# Altium integrated library ALTIUM-WE-PD-HV-rev17a.IntLib: 18 symbols
Pins are listed as number, name and electrical type; pins without a type are passive.

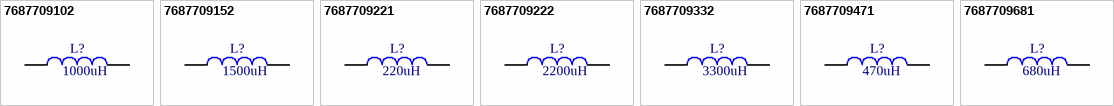
[diagram p0: symbols 7687709102 to 7687709681]

## 7687709102
designator L?  value 1000uH
WE-PD HV SMD High Voltage Power Inductor, size 1210, 0.72A, 1.2Ω, 1000uH; Part Number: 7687709102; DC Resistance: 1.2Ω typ.; ComponentLink1Description: Manufacturer; ComponentLink1URL: http://www.we-online.de; ComponentLink2Description: Datasheet; ComponentLink2URL: http://katalog.we-online.de/pbs/datasheet/7687709102.pdf; Published Date: July 2017; Publisher: Wurth Elektronik; Rated Current: 0.72A; Size: 1210
footprint WE-PD HV_1210
pins: 1, 2

## 7687709152
designator L?  value 1500uH
WE-PD HV SMD High Voltage Power Inductor, size 1210, 0.52A, 1.9Ω, 1500uH; Part Number: 7687709152; DC Resistance: 1.9Ω typ.; ComponentLink1Description: Manufacturer; ComponentLink1URL: http://www.we-online.de; ComponentLink2Description: Datasheet; ComponentLink2URL: http://katalog.we-online.de/pbs/datasheet/7687709152.pdf; Published Date: July 2017; Publisher: Wurth Elektronik; Rated Current: 0.52A; Size: 1210
footprint WE-PD HV_1210
pins: 1, 2

## 7687709221
designator L?  value 220uH
WE-PD HV SMD High Voltage Power Inductor, size 1210, 1.3A, 0.3Ω, 220uH; Part Number: 7687709221; DC Resistance: 0.3Ω typ.; ComponentLink1Description: Manufacturer; ComponentLink1URL: http://www.we-online.de; ComponentLink2Description: Datasheet; ComponentLink2URL: http://katalog.we-online.de/pbs/datasheet/7687709221.pdf; Published Date: July 2017; Publisher: Wurth Elektronik; Rated Current: 1.3A; Size: 1210
footprint WE-PD HV_1210
pins: 1, 2

## 7687709222
designator L?  value 2200uH
WE-PD HV SMD High Voltage Power Inductor, size 1210, 0.43A, 3.1Ω, 2200uH; Part Number: 7687709222; DC Resistance: 3.1Ω typ.; ComponentLink1Description: Manufacturer; ComponentLink1URL: http://www.we-online.de; ComponentLink2Description: Datasheet; ComponentLink2URL: http://katalog.we-online.de/pbs/datasheet/7687709222.pdf; Published Date: July 2017; Publisher: Wurth Elektronik; Rated Current: 0.43A; Size: 1210
footprint WE-PD HV_1210
pins: 1, 2

## 7687709332
designator L?  value 3300uH
WE-PD HV SMD High Voltage Power Inductor, size 1210, 0.37A, 4.4Ω, 3300uH; Part Number: 7687709332; DC Resistance: 4.4Ω typ.; ComponentLink1Description: Manufacturer; ComponentLink1URL: http://www.we-online.de; ComponentLink2Description: Datasheet; ComponentLink2URL: http://katalog.we-online.de/pbs/datasheet/7687709332.pdf; Published Date: July 2017; Publisher: Wurth Elektronik; Rated Current: 0.37A; Size: 1210
footprint WE-PD HV_1210
pins: 1, 2

## 7687709471
designator L?  value 470uH
WE-PD HV SMD High Voltage Power Inductor, size 1210, 0.97A, 0.68Ω, 470uH; Part Number: 7687709471; DC Resistance: 0.68Ω typ.; ComponentLink1Description: Manufacturer; ComponentLink1URL: http://www.we-online.de; ComponentLink2Description: Datasheet; ComponentLink2URL: http://katalog.we-online.de/pbs/datasheet/7687709471.pdf; Published Date: July 2017; Publisher: Wurth Elektronik; Rated Current: 0.97A; Size: 1210
footprint WE-PD HV_1210
pins: 1, 2

## 7687709681
designator L?  value 680uH
WE-PD HV SMD High Voltage Power Inductor, size 1210, 0.8A, 0.95Ω, 680uH; Part Number: 7687709681; DC Resistance: 0.95Ω typ.; ComponentLink1Description: Manufacturer; ComponentLink1URL: http://www.we-online.de; ComponentLink2Description: Datasheet; ComponentLink2URL: http://katalog.we-online.de/pbs/datasheet/7687709681.pdf; Published Date: July 2017; Publisher: Wurth Elektronik; Rated Current: 0.8A; Size: 1210
footprint WE-PD HV_1210
pins: 1, 2


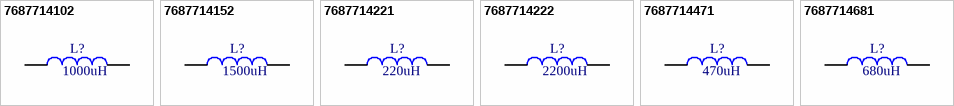
[diagram p1: symbols 7687714102 to 7687714681]

## 7687714102
designator L?  value 1000uH
WE-PD HV SMD High Voltage Power Inductor, size 1060, 0.4A, 2.7Ω, 1000uH; Part Number: 7687714102; DC Resistance: 2.7Ω typ.; ComponentLink1Description: Manufacturer; ComponentLink1URL: http://www.we-online.de; ComponentLink2Description: Datasheet; ComponentLink2URL: http://katalog.we-online.de/pbs/datasheet/7687714102.pdf; Published Date: July 2017; Publisher: Wurth Elektronik; Rated Current: 0.4A; Size: 1060
footprint WE-PD HV_1060
pins: 1, 2

## 7687714152
designator L?  value 1500uH
WE-PD HV SMD High Voltage Power Inductor, size 1060, 0.32A, 3.8Ω, 1500uH; Part Number: 7687714152; DC Resistance: 3.8Ω typ.; ComponentLink1Description: Manufacturer; ComponentLink1URL: http://www.we-online.de; ComponentLink2Description: Datasheet; ComponentLink2URL: http://katalog.we-online.de/pbs/datasheet/7687714152.pdf; Published Date: July 2017; Publisher: Wurth Elektronik; Rated Current: 0.32A; Size: 1060
footprint WE-PD HV_1060
pins: 1, 2

## 7687714221
designator L?  value 220uH
WE-PD HV SMD High Voltage Power Inductor, size 1060, 0.95A, 0.57Ω, 220uH; Part Number: 7687714221; DC Resistance: 0.57Ω typ.; ComponentLink1Description: Manufacturer; ComponentLink1URL: http://www.we-online.de; ComponentLink2Description: Datasheet; ComponentLink2URL: http://katalog.we-online.de/pbs/datasheet/7687714221.pdf; Published Date: July 2017; Publisher: Wurth Elektronik; Rated Current: 0.95A; Size: 1060
footprint WE-PD HV_1060
pins: 1, 2

## 7687714222
designator L?  value 2200uH
WE-PD HV SMD High Voltage Power Inductor, size 1060, 0.26A, 5.5Ω, 2200uH; Part Number: 7687714222; DC Resistance: 5.5Ω typ.; ComponentLink1Description: Manufacturer; ComponentLink1URL: http://www.we-online.de; ComponentLink2Description: Datasheet; ComponentLink2URL: http://katalog.we-online.de/pbs/datasheet/7687714222.pdf; Published Date: July 2017; Publisher: Wurth Elektronik; Rated Current: 0.26A; Size: 1060
footprint WE-PD HV_1060
pins: 1, 2

## 7687714471
designator L?  value 470uH
WE-PD HV SMD High Voltage Power Inductor, size 1060, 0.6A, 1.25Ω, 470uH; Part Number: 7687714471; DC Resistance: 1.25Ω typ.; ComponentLink1Description: Manufacturer; ComponentLink1URL: http://www.we-online.de; ComponentLink2Description: Datasheet; ComponentLink2URL: http://katalog.we-online.de/pbs/datasheet/7687714471.pdf; Published Date: July 2017; Publisher: Wurth Elektronik; Rated Current: 0.6A; Size: 1060
footprint WE-PD HV_1060
pins: 1, 2

## 7687714681
designator L?  value 680uH
WE-PD HV SMD High Voltage Power Inductor, size 1060, 0.55A, 1.9Ω, 680uH; Part Number: 7687714681; DC Resistance: 1.9Ω typ.; ComponentLink1Description: Manufacturer; ComponentLink1URL: http://www.we-online.de; ComponentLink2Description: Datasheet; ComponentLink2URL: http://katalog.we-online.de/pbs/datasheet/7687714681.pdf; Published Date: July 2017; Publisher: Wurth Elektronik; Rated Current: 0.55A; Size: 1060
footprint WE-PD HV_1060
pins: 1, 2


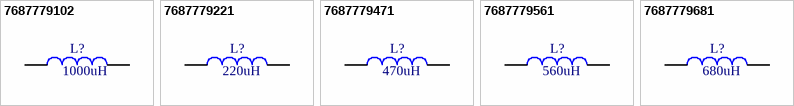
[diagram p2: symbols 7687779102 to 7687779681]

## 7687779102
designator L?  value 1000uH
WE-PD HV SMD High Voltage Power Inductor, size 7345, 0.24A, 5.1Ω, 1000uH; Part Number: 7687779102; DC Resistance: 5.1Ω typ.; ComponentLink1Description: Manufacturer; ComponentLink1URL: http://www.we-online.de; ComponentLink2Description: Datasheet; ComponentLink2URL: http://katalog.we-online.de/pbs/datasheet/7687779102.pdf; Published Date: July 2017; Publisher: Wurth Elektronik; Rated Current: 0.24A; Size: 7345
footprint WE-PD HV_7345
pins: 1, 2

## 7687779221
designator L?  value 220uH
WE-PD HV SMD High Voltage Power Inductor, size 7345, 0.56A, 1.1Ω, 220uH; Part Number: 7687779221; DC Resistance: 1.1Ω typ.; ComponentLink1Description: Manufacturer; ComponentLink1URL: http://www.we-online.de; ComponentLink2Description: Datasheet; ComponentLink2URL: http://katalog.we-online.de/pbs/datasheet/7687779221.pdf; Published Date: July 2017; Publisher: Wurth Elektronik; Rated Current: 0.56A; Size: 7345
footprint WE-PD HV_7345
pins: 1, 2

## 7687779471
designator L?  value 470uH
WE-PD HV SMD High Voltage Power Inductor, size 7345, 0.35A, 2.7Ω, 470uH; Part Number: 7687779471; DC Resistance: 2.7Ω typ.; ComponentLink1Description: Manufacturer; ComponentLink1URL: http://www.we-online.de; ComponentLink2Description: Datasheet; ComponentLink2URL: http://katalog.we-online.de/pbs/datasheet/7687779471.pdf; Published Date: July 2017; Publisher: Wurth Elektronik; Rated Current: 0.35A; Size: 7345
footprint WE-PD HV_7345
pins: 1, 2

## 7687779561
designator L?  value 560uH
WE-PD HV SMD High Voltage Power Inductor, size 7345, 0.33A, 3Ω, 560uH; Part Number: 7687779561; DC Resistance: 3Ω typ.; ComponentLink1Description: Manufacturer; ComponentLink1URL: http://www.we-online.de; ComponentLink2Description: Datasheet; ComponentLink2URL: http://katalog.we-online.de/pbs/datasheet/7687779561.pdf; Published Date: July 2017; Publisher: Wurth Elektronik; Rated Current: 0.33A; Size: 7345
footprint WE-PD HV_7345
pins: 1, 2

## 7687779681
designator L?  value 680uH
WE-PD HV SMD High Voltage Power Inductor, size 7345, 0.3A, 3.4Ω, 680uH; Part Number: 7687779681; DC Resistance: 3.4Ω typ.; ComponentLink1Description: Manufacturer; ComponentLink1URL: http://www.we-online.de; ComponentLink2Description: Datasheet; ComponentLink2URL: http://katalog.we-online.de/pbs/datasheet/7687779681.pdf; Published Date: July 2017; Publisher: Wurth Elektronik; Rated Current: 0.3A; Size: 7345
footprint WE-PD HV_7345
pins: 1, 2